# Altium footprint library LED.PcbLib: 1 footprints
Each footprint in its own frame and in the unit in brackets; x right, y up, seen from the top. Pads: shape width x height; smd on the part's side, far side on the other; paste and mask are expansions set on the pad; w line width, h text height; cw(c..) or ccw(c..) is an arc to the next point about the centre after c.
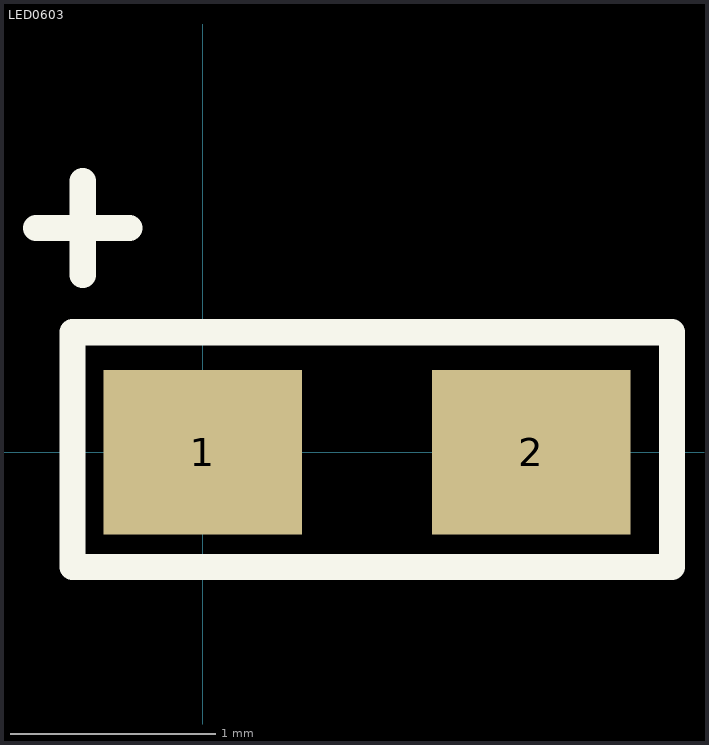
[diagram p0: the footprint, top view; thin cyan lines are the x and y axes]

## LED0603 [mm]
pads (2):
  rect 0.965x0.8 smd: 1(0,0) 2(1.6,0)
Top Overlay:
  lines w0.127: -0.813,1.092 -0.356,1.092 ; -0.584,0.864 -0.584,1.321 ; -0.635,-0.559 -0.635,-0.432 -0.635,0.584 2.286,0.584 2.286,-0.559 -0.635,-0.559